# EAGLE library part 74LVC1G74 (library ds_ic_logic)
Single D-type flip-flop with set and reset; positive edge trigger
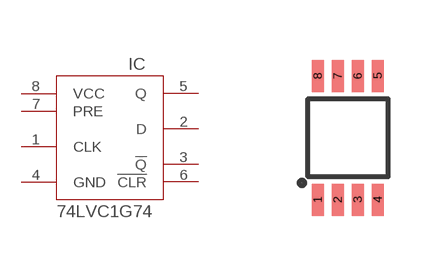
[diagram p13: symbol with the pads of GHI-IC_VSSOP8(TI); footprint GHI-IC_VSSOP8(TI)]

Designator prefix IC

## 74LVC1G74  [GHI-IC_VSSOP8(TI)]
1  CLK
2  D
3  !Q
4  GND
5  Q
6  !CLR
7  PRE
8  VCC

## Footprint GHI-IC_VSSOP8(TI) (pad centres in mm)
smd 0.3 x 0.8: 1 -0.75,-1.55; 2 -0.25,-1.55; 3 0.25,-1.55; 4 0.75,-1.55; 5 0.75,1.55; 6 0.25,1.55; 7 -0.25,1.55; 8 -0.75,1.55